# EAGLE library part SHT30 (library angrypig7-IC-Sensors)
Sensirion SHT30, Temperature & Humidity Sensor SHT-30-DIS-B Operating Range: (0~100% RH), (-40~125°C) SHT-30-DIS-B Accuracy: +/-3%RH, +/-0.3°C
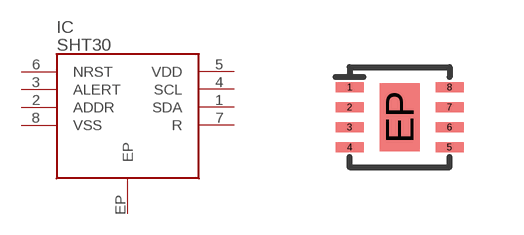
[diagram p1: symbol with the pads of DFN-8; footprint DFN-8]

Designator prefix IC

## SHT30  [DFN-8]
1  SDA
2  ADDR
3  ALERT
4  SCL
5  VDD
6  NRST
7  R
8  VSS
EP  EP

## Footprint DFN-8 (pad centres in mm)
smd 0.7 x 0.25: 1 -1.25,0.75; 2 -1.25,0.25; 3 -1.25,-0.25; 4 -1.25,-0.75; 5 1.25,-0.75; 6 1.25,-0.25; 7 1.25,0.25; 8 1.25,0.75
smd 1 x 1.7: EP 0,0